# Altium footprint library W25Q128JVSIQTR.PcbLib: 3 footprints
Each footprint in its own frame and in the unit in brackets; x right, y up, seen from the top. Pads: shape width x height; smd on the part's side, far side on the other; paste and mask are expansions set on the pad; w line width, h text height; cw(c..) or ccw(c..) is an arc to the next point about the centre after c.
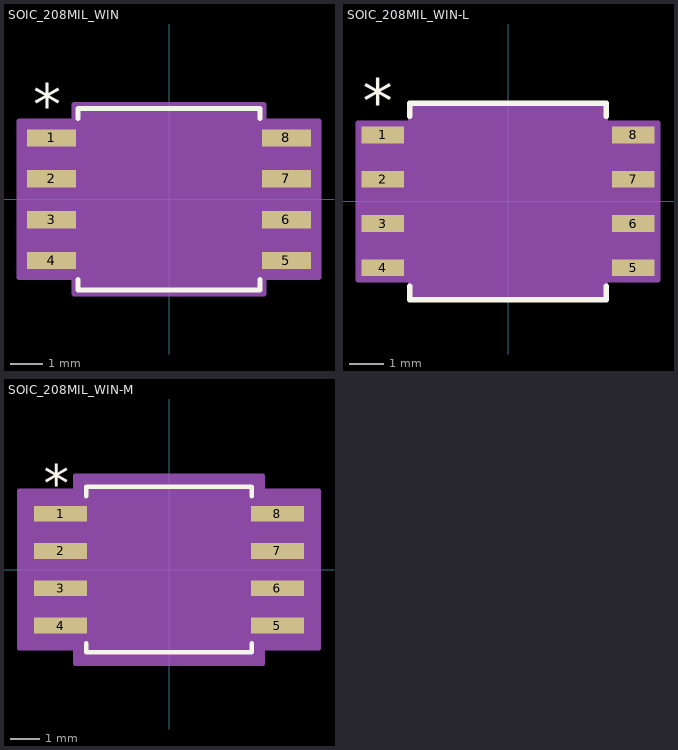
[diagram p0: the footprints below, top view; thin cyan lines are the x and y axes]

## SOIC_208MIL_WIN [mil]
pads (8):
  rect 59.56x20.97 smd paste+0 mask+0: 1(-143.5,75) 2(-143.5,25) 3(-143.5,-25) 4(-143.5,-75) 5(143.5,-75) 6(143.5,-25) 7(143.5,25) 8(143.5,75)
Top Overlay:
  lines w6: -111,-98.3 -111,-111 111,-111 111,-98.3 ; -111,98.3 -111,111 111,111 111,98.3
  text ".Designator" at -137.5,-25 h50
  text "*" at -166,90.97 h50
Mechanical 13:
  lines w1: -12,106 ccw(c0,106) 12,106 ; -159.5,-84.5 -159.5,-65.5 -106,-65.5 -106,-84.5 -159.5,-84.5 ; -159.5,-34.5 -159.5,-15.5 -106,-15.5 -106,-34.5 -159.5,-34.5 ; -159.5,15.5 -159.5,34.5 -106,34.5 -106,15.5 -159.5,15.5 ; -159.5,65.5 -159.5,84.5 -106,84.5 -106,65.5 -159.5,65.5 ; -106,-106 106,-106 106,106 -106,106 -106,-106 ; 106,-84.5 106,-65.5 159.5,-65.5 159.5,-84.5 106,-84.5 ; 106,-34.5 106,-15.5 159.5,-15.5 159.5,-34.5 106,-34.5 ; 106,15.5 106,34.5 159.5,34.5 159.5,15.5 106,15.5 ; 106,65.5 106,84.5 159.5,84.5 159.5,65.5 106,65.5
  text "*" at -103.5,53 h50
  text ".Designator" at -137.5,-25 h50
Mechanical 15:
  region: -116,-95.48 -183.28,-95.48 -183.28,95.48 -116,95.48 -116,116 116,116 116,95.48 183.28,95.48 183.28,-95.48 116,-95.48 116,-116 -116,-116
  lines w6: -183.28,-95.48 -183.28,95.48 -116,95.48 -116,116 116,116 116,95.48 183.28,95.48 183.28,-95.48 116,-95.48 116,-116 -116,-116 -116,-95.48 -183.28,-95.48
3D body "SOIC_208MIL_WIN.step": height 85.12, standoff 0, extent -159.49,-105.98 159.49,105.98

## SOIC_208MIL_WIN-L [mil]
pads (8):
  rect 47.75x19 smd paste+0 mask+0: 1(-141.53,75) 2(-141.53,25) 3(-141.53,-25) 4(-141.53,-75) 5(141.53,-75) 6(141.53,-25) 7(141.53,25) 8(141.53,75)
Top Overlay:
  lines w6: -111,-95.78 -111,-111 111,-111 111,-95.78 ; -111,95.78 -111,111 111,111 111,95.78
  text ".Designator" at -137.5,-25 h50
  text "*" at -164.03,89 h50
Mechanical 13:
  lines w1: -12,106 ccw(c0,106) 12,106 ; -159.5,-84.5 -159.5,-65.5 -106,-65.5 -106,-84.5 -159.5,-84.5 ; -159.5,-34.5 -159.5,-15.5 -106,-15.5 -106,-34.5 -159.5,-34.5 ; -159.5,15.5 -159.5,34.5 -106,34.5 -106,15.5 -159.5,15.5 ; -159.5,65.5 -159.5,84.5 -106,84.5 -106,65.5 -159.5,65.5 ; -106,-106 106,-106 106,106 -106,106 -106,-106 ; 106,-84.5 106,-65.5 159.5,-65.5 159.5,-84.5 106,-84.5 ; 106,-34.5 106,-15.5 159.5,-15.5 159.5,-34.5 106,-34.5 ; 106,15.5 106,34.5 159.5,34.5 159.5,15.5 106,15.5 ; 106,65.5 106,84.5 159.5,84.5 159.5,65.5 106,65.5
  text "*" at -103.5,53 h50
  text ".Designator" at -137.5,-25 h50
Mechanical 15:
  region: -110,-88.5 -169.41,-88.5 -169.41,88.5 -110,88.5 -110,110 110,110 110,88.5 169.41,88.5 169.41,-88.5 110,-88.5 110,-110 -110,-110
  lines w6: -169.41,-88.5 -169.41,88.5 -110,88.5 -110,110 110,110 110,88.5 169.41,88.5 169.41,-88.5 110,-88.5 110,-110 -110,-110 -110,-88.5 -169.41,-88.5
3D body "SOIC_208MIL_WIN.step": height 85.12, standoff 0, extent -159.49,-105.98 159.49,105.98

## SOIC_208MIL_WIN-M [mil]
pads (8):
  rect 71.37x20.97 smd paste+0 mask+0: 1(-145.47,75) 2(-145.47,25) 3(-145.47,-25) 4(-145.47,-75) 5(145.47,-75) 6(145.47,-25) 7(145.47,25) 8(145.47,75)
Top Overlay:
  lines w6: -111,-98.58 -111,-111 111,-111 111,-98.58 ; -111,98.58 -111,111 111,111 111,98.58
  text ".Designator" at -137.5,-25 h50
  text "*" at -167.97,90.97 h50
Mechanical 13:
  lines w1: -12,106 ccw(c0,106) 12,106 ; -159.5,-84.5 -159.5,-65.5 -106,-65.5 -106,-84.5 -159.5,-84.5 ; -159.5,-34.5 -159.5,-15.5 -106,-15.5 -106,-34.5 -159.5,-34.5 ; -159.5,15.5 -159.5,34.5 -106,34.5 -106,15.5 -159.5,15.5 ; -159.5,65.5 -159.5,84.5 -106,84.5 -106,65.5 -159.5,65.5 ; -106,-106 106,-106 106,106 -106,106 -106,-106 ; 106,-84.5 106,-65.5 159.5,-65.5 159.5,-84.5 106,-84.5 ; 106,-34.5 106,-15.5 159.5,-15.5 159.5,-34.5 106,-34.5 ; 106,15.5 106,34.5 159.5,34.5 159.5,15.5 106,15.5 ; 106,65.5 106,84.5 159.5,84.5 159.5,65.5 106,65.5
  text "*" at -103.5,53 h50
  text ".Designator" at -137.5,-25 h50
Mechanical 15:
  region: -126,-105.48 -201.15,-105.48 -201.15,105.48 -126,105.48 -126,126 126,126 126,105.48 201.15,105.48 201.15,-105.48 126,-105.48 126,-126 -126,-126
  lines w6: -201.15,-105.48 -201.15,105.48 -126,105.48 -126,126 126,126 126,105.48 201.15,105.48 201.15,-105.48 126,-105.48 126,-126 -126,-126 -126,-105.48 -201.15,-105.48
3D body "SOIC_208MIL_WIN.step": height 85.12, standoff 0, extent -159.49,-105.98 159.49,105.98